# EAGLE library part ACS712 (library perspection)
SENSOR CURRENT HALL 5A AC/DC Digi-key Page <http://www.digikey.com/product-detail/en/ACS712ELCTR-05B-T/620-1189-1-ND/1284606>
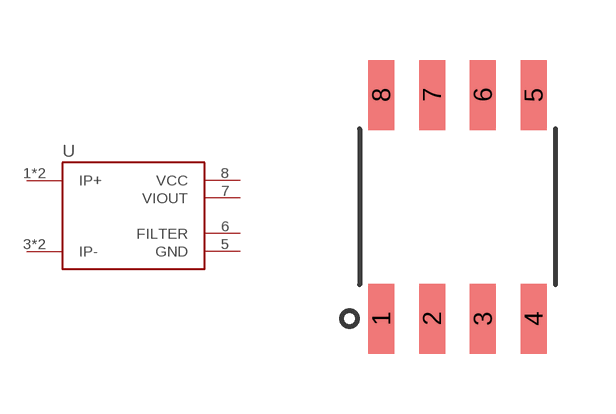
[diagram p4: symbol with the pads of SOIC-8; footprint SOIC-8]

Designator prefix U

## ACS712 (DIST_NAME: Digi-Key; DIST_PN: 620-1189-1-ND; MFG_NAME: Allegro MicroSystems, LLC; MFG_PN: ACS712ELCTR-05B-T)  [SOIC-8]
1  IP+
2  IP+
3  IP-
4  IP-
5  GND
6  FILTER
7  VIOUT
8  VCC

## Footprint SOIC-8 (pad centres in mm)
smd 0.65 x 1.75: 1 -1.905,-2.8; 2 -0.635,-2.8; 3 0.635,-2.8; 4 1.905,-2.8; 5 1.905,2.8; 6 0.635,2.8; 7 -0.635,2.8; 8 -1.905,2.8